# EAGLE library part EXB-E10C103J (library Resistor Array)
RES ARRAY 8 RES 10K OHM 1608 Manufacturer's datasheet <https://industrial.panasonic.com/cdbs/www-data/pdf/AOC0000/AOC0000C12.pdf>
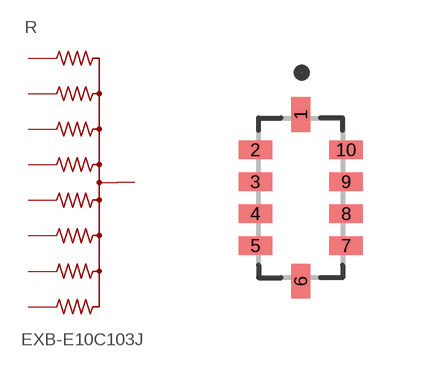
[diagram p4: symbol with the pads of EXB-E10C103J; footprint EXB-E10C103J]

Designator prefix R

## EXB-E10C103J (CREATED_BY: PCBLayout.com; DIGIKEY_PARTNO: U8103TR-ND; MANUFACTURER: Panasonic Electronic Components; MPN: EXB-E10C103J; PACKAGE: 1608)  [EXB-E10C103J]
1  1  pas
2  2  pas
3  3  pas
4  4  pas
5  5  pas
6  1  pas
7  7  pas
8  8  pas
9  9  pas
10  10  pas

## Footprint EXB-E10C103J (pad centres in mm)
10-Chiparray 4-Side Flat, 0.80 mm pitch, 4.00 X 2.10 X 0.55 mm body 10-pin Chiparray 4-Side Flat package with 0.80 mm pitch with body size 4.00 X 2.10 X 0.55 mm
smd 0.472 x 0.867: 1 0,2.085; 6 0,-2.085
smd 0.842 x 0.472: 2 -1.135,1.2; 3 -1.135,0.4; 4 -1.135,-0.4; 5 -1.135,-1.2; 7 1.135,-1.2; 8 1.135,-0.4; 9 1.135,0.4; 10 1.135,1.2